# Altium schematic symbol library 7segled.SchLib: 1 symbol
Pins are listed as number, name and electrical type; pins without a type are passive.

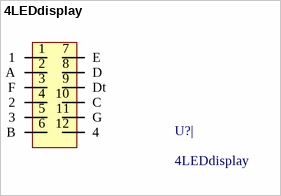
[diagram p0: symbol 4LEDdisplay]

## 4LEDdisplay
designator U?|
4LEDdisplay 7 segment
pins: 1 (power), 2 A, 3 F, 4 2 (power), 5 3 (power), 6 B, 7 E, 8 D, 9 Dt, 10 C, 11 G, 12 4 (power)